# EAGLE library part 0670688000 (library molex-usb-b-receptacle-0670688000)
USB Connectors USB REC 4P RA SHLD TYPE B AUFL. Source: Datasheet <https://www.molex.com/pdm_docs/sd/670688000_sd.pdf>
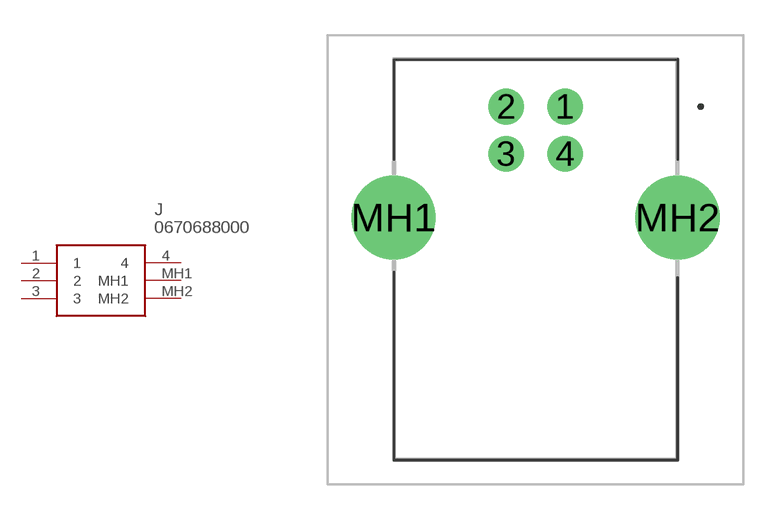
[diagram p0: symbol with the pads of 0670688000; footprint 0670688000]

Designator prefix J

## 0670688000 (Arrow_Part_Number: 0670688000; Arrow_Price-Stock: https://www.arrow.com/en/products/0670688000/molex?region=nac; Description: USB Connectors USB REC 4P RA SHLD TYPE B AUFL.; Height: 11mm; Manufacturer_Name: Molex; Manufacturer_Part_Number: 0670688000; Mouser_Part_Number: N/A; Mouser_Price-Stock: https://www.mouser.co.uk/ProductDetail/Molex/0670688000?qs=PBcRNPEHKsro26L2nsRxAA%3D%3D)  [0670688000]
1  1
2  2
3  3
4  4
MH1  MH1
MH2  MH2

## Footprint 0670688000 (pad centres in mm)
0670688000-2
drill 1 pad 1.5: 1 0,0; 2 -2.5,0; 3 -2.5,-2; 4 0,-2
drill 2.38 pad 3.57: MH1 -7.27,-4.7; MH2 4.77,-4.7